# Altium footprint library MechanicalSwitches_Footprint.PcbLib: 1 footprints
Each footprint in its own frame and in the unit in brackets; x right, y up, seen from the top. Pads: shape width x height; smd on the part's side, far side on the other; paste and mask are expansions set on the pad; w line width, h text height; cw(c..) or ccw(c..) is an arc to the next point about the centre after c.
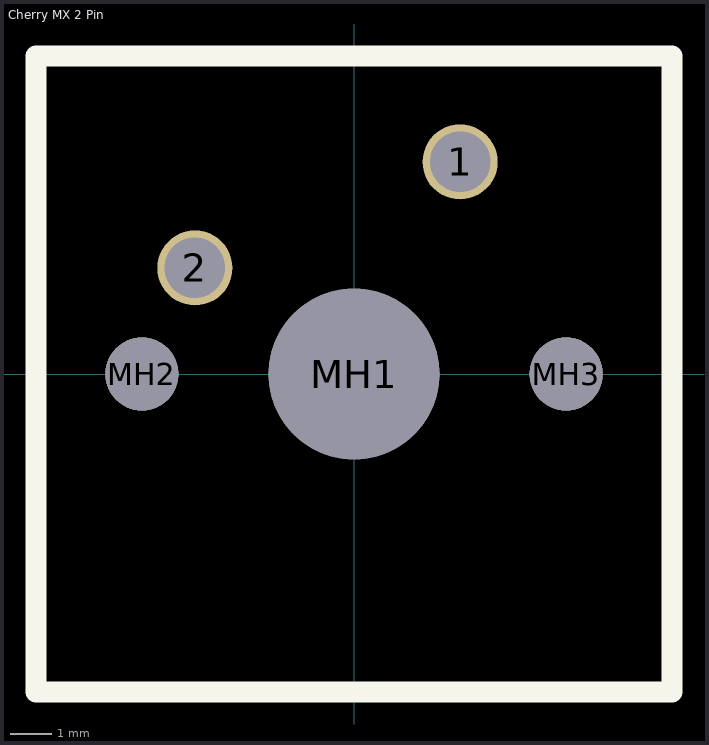
[diagram p0: the footprint, top view; thin cyan lines are the x and y axes]

## Cherry MX 2 Pin [mil] "A Cherry MX Switch with 2 Mounting Holes"
pads (5):
  round 70.87 hole 57: 1(100,200) 2(-150,100)
  round 160.98 hole 161 unplated: MH1(0,0)
  round 69.02 hole 69 unplated: MH2(-200,0) MH3(200,0)
Top Overlay:
  lines w19.68: -300,-300 -300,300 300,300 300,-300 -300,-300
Mechanical 29:
  text ".Designator" at 3.94,-197.27 h26.38
3D body "cherry mx.STEP": height 587.12, standoff -115.64, extent -307.87,-321.46 307.87,321.46